# EAGLE library part MCMT5-F-V (library badge)
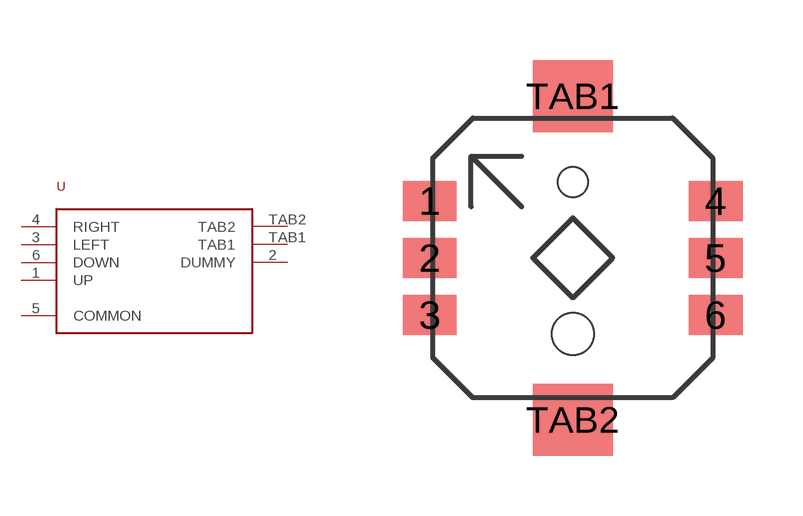
[diagram p5: symbol with the pads of MCMT5-F-V; footprint MCMT5-F-V]

Designator prefix -

## MCMT5-F-V  [MCMT5-F-V]
1  UP
2  DUMMY
3  LEFT
4  RIGHT
5  COMMON
6  DOWN
TAB1  TAB1
TAB2  TAB2

## Footprint MCMT5-F-V (pad centres in mm)
smd 1.35 x 1: 1 -3.575,1.425; 2 -3.575,0; 3 -3.575,-1.425; 4 3.575,1.425; 5 3.575,0; 6 3.575,-1.425
smd 2 x 1.8: TAB1 0,4.05; TAB2 0,-4.05
hole 1.05 at 0,-1.9
hole 0.75 at 0,1.9